# EAGLE library part MPR121QR2 (library Sensor)
Proximity Capacitive Touch Sensor Controller Datasheet <https://www.nxp.com/docs/en/data-sheet/MPR121.pdf>
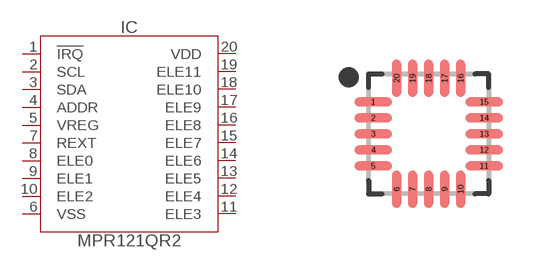
[diagram p4: symbol with the pads of QFN40P300X300X65-20N; footprint QFN40P300X300X65-20N]

Designator prefix IC

## MPR121QR2 (CATEGORY: SENSOR; DESCRTPTION: Capacitive Touch Sensors Low Voltage Touch Pad; MANUFACTURER: NXP; MPN: MPR121QR2; OPERATING_TEMPERATURE: -40°C to +85°C; PART_STATUS: Obsolete; ROHS_COMPLIANT: RoHS COMPLIANT; SERIES: MPR121; VALUE: MPR121)  [QFN40P300X300X65-20N]
1  !IRQ
2  SCL
3  SDA
4  ADDR
5  VREG
6  VSS
7  REXT
8  ELE0
9  ELE1
10  ELE2
11  ELE3
12  ELE4
13  ELE5
14  ELE6
15  ELE7
16  ELE8
17  ELE9
18  ELE10
19  ELE11
20  VDD

## Footprint QFN40P300X300X65-20N (pad centres in mm)
20-QFN, 0.40 mm pitch, 3.00 X 3.00 X 0.65 mm body 20-pin QFN package with 0.40 mm pitch with body size 3.00 X 3.00 X 0.65 mm
smd 0.937 x 0.22: 1 -1.387,0.8; 2 -1.387,0.4; 3 -1.387,0; 4 -1.387,-0.4; 5 -1.387,-0.8; 11 1.387,-0.8; 12 1.387,-0.4; 13 1.387,0; 14 1.387,0.4; 15 1.387,0.8
smd 0.22 x 0.937: 6 -0.8,-1.387; 7 -0.4,-1.387; 8 0,-1.387; 9 0.4,-1.387; 10 0.8,-1.387; 16 0.8,1.387; 17 0.4,1.387; 18 0,1.387; 19 -0.4,1.387; 20 -0.8,1.387